# EAGLE library part 722-838 (library con-wago_7.5mm)
Serie 722, Federleiste mit abgewinkelten Einlötstiften / Series 722, Female connector with angled solder pins Polzahl / Pole No.: 8 Rastermaß / Pitch: 7.5 mm Bemessungsspannung / Rated Voltage: 630 V Nennstrom / Nominal Current: 12 A Lötstiftlänge: / Solder Pin Length: 5 mm Farbe / Color: lichtgrau / light gray Stand: 01.01.2012. Die jeweils aktuellen Daten zu diesem Artikel finden Sie in unserem Produktkatalog, den Sie unter www.wago.com einsehen können. As of: 01/01/2012. Please find the newest data for this article in our product catalogue, which can be viewed under www.wago.com.
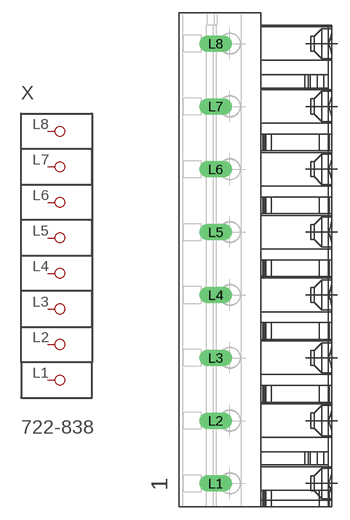
[diagram p42: symbol with the pads of P-722-838; footprint P-722-838]

Designator prefix X

## 722-838  [P-722-838]
L1  P1
L2  P2
L3  P3
L4  P4
L5  P5
L6  P6
L7  P7
L8  P8

## Footprint P-722-838 (pad centres in mm)
drill 1.3 long: L1 -5.042,-26.7; L2 -5.042,-19.2; L3 -5.042,-11.7; L4 -5.042,-4.2; L5 -5.042,3.3; L6 -5.042,10.8; L7 -5.042,18.3; L8 -5.042,25.8